# EAGLE library part LPS33HW (library Sombeck_lib)
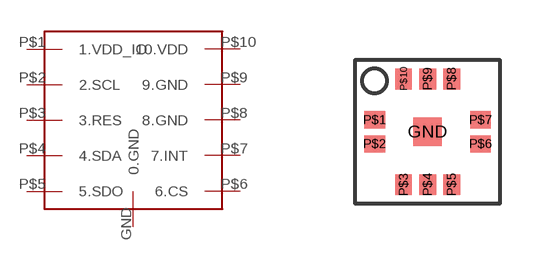
[diagram p5: symbol with the pads of LPS33HW; footprint LPS33HW]

Designator prefix -

## LPS33HW  [LPS33HW]
GND  0.GND
P$1  1.VDD_IO
P$2  2.SCL
P$3  3.RES
P$4  4.SDA
P$5  5.SDO
P$6  6.CS
P$7  7.INT
P$8  8.GND
P$9  9.GND
P$10  10.VDD

## Footprint LPS33HW (pad centres in mm)
smd 0.7 x 0.7: GND 0,0
smd 0.525 x 0.425: P$1 -1.325,0.3; P$2 -1.325,-0.3; P$6 1.325,-0.3; P$7 1.325,0.3
smd 0.425 x 0.525: P$3 -0.6,-1.325; P$4 0,-1.325; P$5 0.6,-1.325; P$8 0.6,1.325; P$9 0,1.325; P$10 -0.6,1.325